# EAGLE library part HFJ11-S101E-S1 (library canusb)
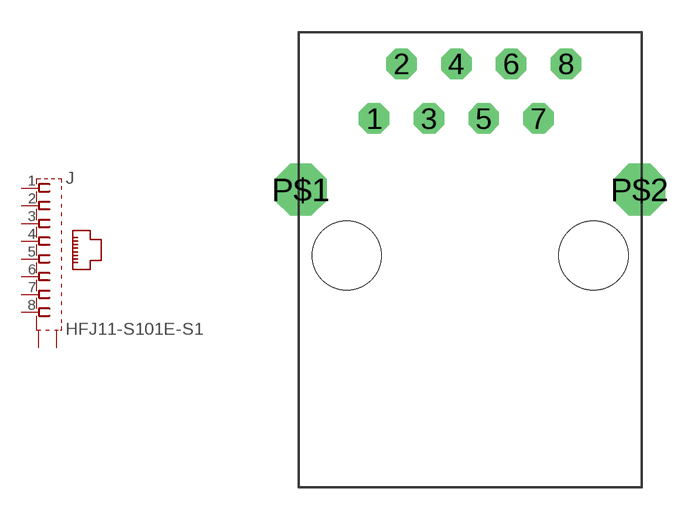
[diagram p3: symbol with the pads of HFJ11-S101E-S1; footprint HFJ11-S101E-S1]

Designator prefix J

## HFJ11-S101E-S1  [HFJ11-S101E-S1]
1  1  pas
2  2  pas
3  3  pas
4  4  pas
5  5  pas
6  6  pas
7  7  pas
8  8  pas
P$1  S1  pas
P$2  S2  pas

## Footprint HFJ11-S101E-S1 (pad centres in mm)
drill 0.9 octagon: 1 -4.45,6.35; 2 -3.18,8.89; 3 -1.91,6.35; 4 -0.64,8.89; 5 0.63,6.35; 6 1.9,8.89; 7 3.17,6.35; 8 4.44,8.89
drill 1.6 octagon: P$1 -7.85,3.05; P$2 7.85,3.05
hole 3.2 at -5.715,0
hole 3.2 at 5.715,0